# Altium integrated library Connectors.IntLib: 2 symbols
Pins are listed as number, name and electrical type; pins without a type are passive.

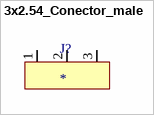
[diagram p0: symbol 3x2.54_Conector_male]

## 3x2.54_Conector_male
designator J?
footprint 3x2.54_Connector_male
pins: 1, 2, 3


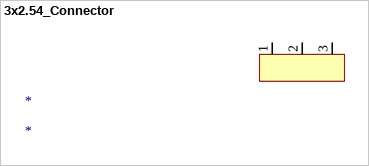
[diagram p1: symbol 3x2.54_Connector]

## 3x2.54_Connector
designator *
footprint 2.54_Connector_x3_female
pins: 1, 2, 3